# Altium footprint library MLACHE_J.PCBLIB: 73 footprints (part 2 of 5)
Each footprint in its own frame and in the unit in brackets; x right, y up, seen from the top. Pads: shape width x height; smd on the part's side, far side on the other; paste and mask are expansions set on the pad; w line width, h text height; cw(c..) or ccw(c..) is an arc to the next point about the centre after c.
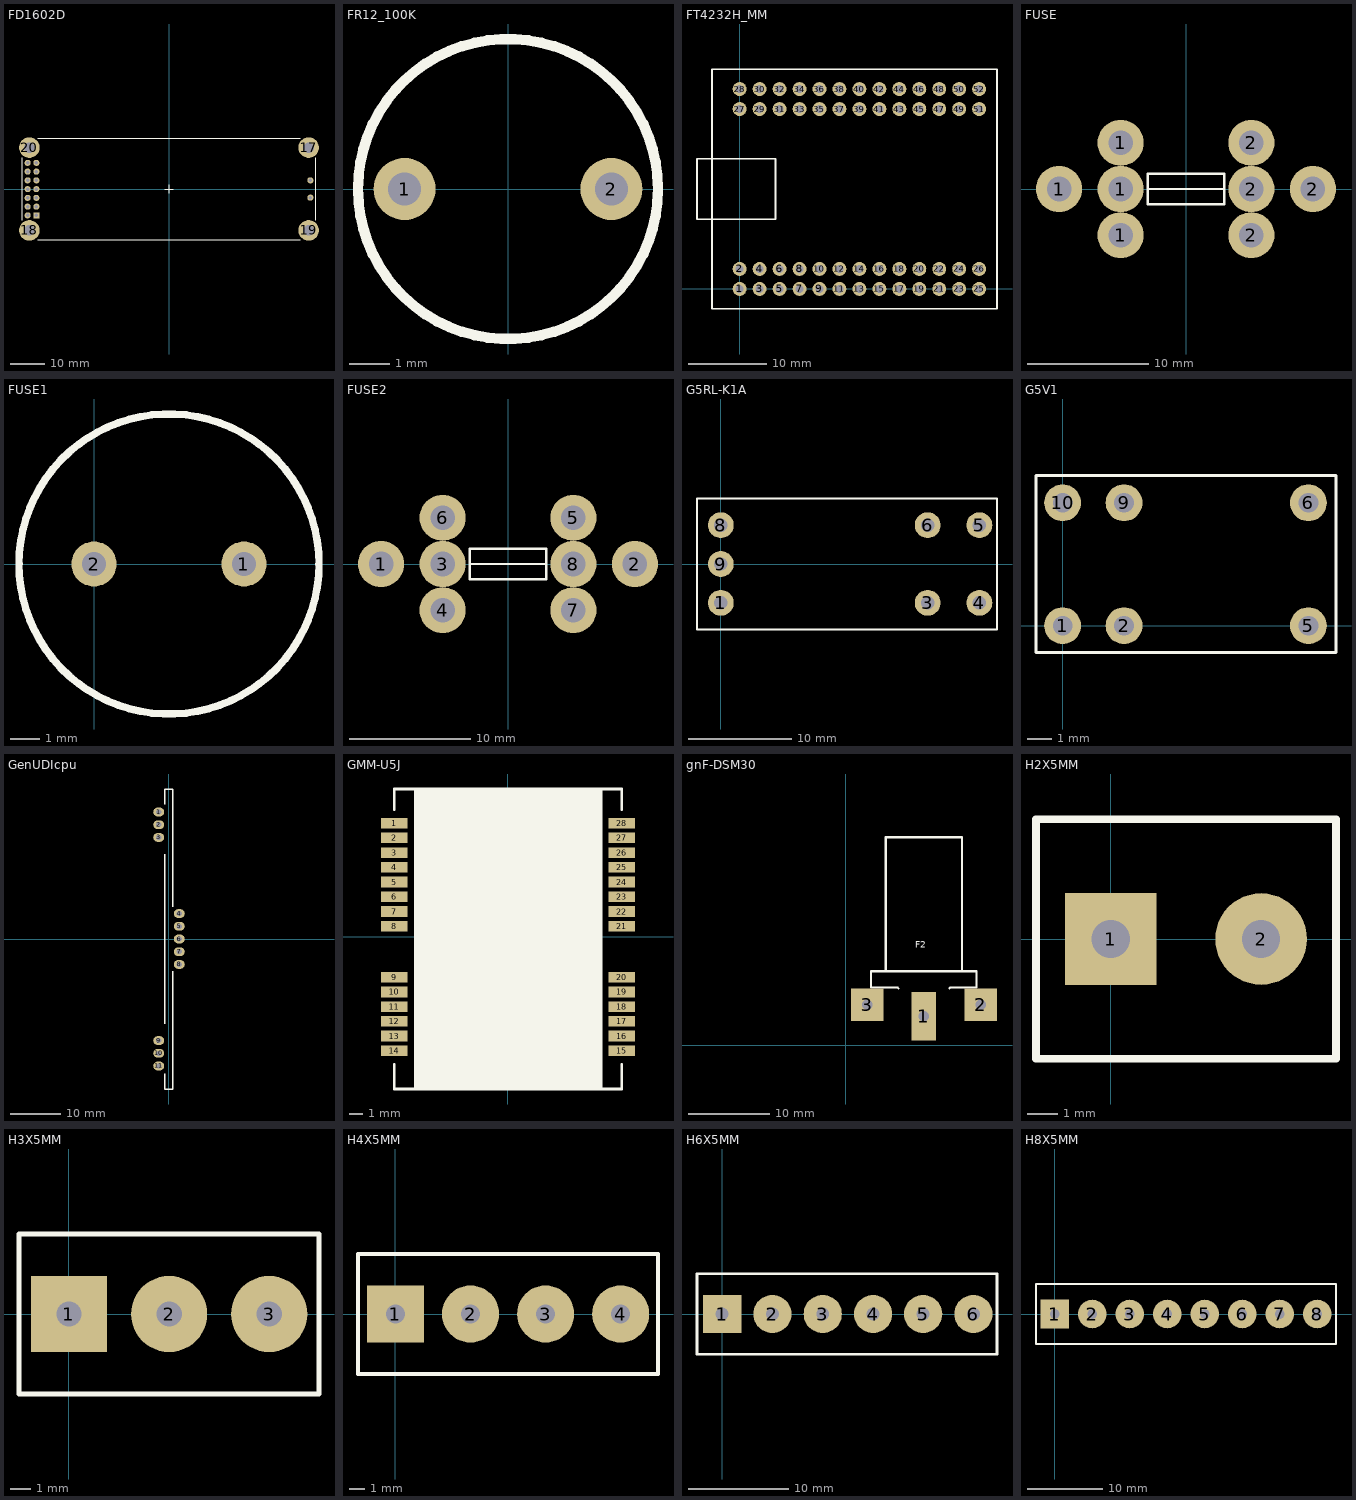
[diagram p1: the footprints below, top view; thin cyan lines are the x and y axes]

## FD1602D [mm]
pads (20):
  rect 1.778x1.778 hole 1.016: 1(-38.46,-7.65)
  round 1.778 hole 1.016: 2(-41,-7.65) 3(-38.46,-5.11) 4(-41,-5.11) 5(-38.46,-2.57) 6(-41,-2.57) 7(-38.46,-0.03) 8(-41,-0.03) 9(-38.46,2.51) 10(-41,2.51) 11(-38.46,5.05) 12(-41,5.05) 13(-38.46,7.59) 14(-41,7.59) 15(41,-2.5) 16(41,2.5)
  round 6 hole 3: 17(40.5,12) 18(-40.5,-12) 19(40.5,-12) 20(-40.5,12)
TopOverlay:
  lines w0.254: -42.5,-9 -42.5,9 ; -38,-14.75 38,-14.75 ; -38,14.75 38,14.75 ; -1.2,0 0,0 ; 0,-1.3 0,0 ; 0,1.3 0,0 ; 1.2,0 0,0 ; 42.5,-9 42.5,9

## FR12_100K [mil]
pads (2):
  round 60 hole 32: 1(-100,0) 2(100,0)
TopOverlay:
  circle w10: c0,0 r145

## FT4232H_MM [mil]
pads (52):
  round 70 hole 40: 1(0,0) 2(0,100) 3(100,0) 4(100,100) 5(200,0) 6(200,100) 7(300,0) 8(300,100) 9(400,0) 10(400,100) 11(500,0) 12(500,100) 13(600,0) 14(600,100) 15(700,0) 16(700,100) 17(800,0) 18(800,100) 19(900,0) 20(900,100) 21(1000,0) 22(1000,100) 23(1100,0) 24(1100,100) 25(1200,0) 26(1200,100) 27(0,901.18) 28(0,1001.18) 29(100,901.18) 30(100,1001.18) 31(200,901.18) 32(200,1001.18) 33(300,901.18) 34(300,1001.18) 35(400,901.18) 36(400,1001.18) 37(500,901.18) 38(500,1001.18) 39(600,901.18) 40(600,1001.18) 41(700,901.18) 42(700,1001.18) 43(800,901.18) 44(800,1001.18) 45(900,901.18) 46(900,1001.18) 47(1000,901.18) 48(1000,1001.18) 49(1100,901.18) 50(1100,1001.18) 51(1200,901.18) 52(1200,1001.18)
TopOverlay:
  lines w10: -213.78,349.02 -213.78,652.17 179.92,652.17 179.92,349.02 -213.78,349.02 ; -137.8,-99.41 1289.37,-99.41 1289.37,1100.59 -137.8,1100.59 -137.8,-99.41

## FUSE [mil]
pads (8):
  round 150 hole 80: 1(-412.5,0) 1(-212.5,-150) 1(-212.5,0) 1(-212.5,150) 2(212.5,-150) 2(212.5,0) 2(212.5,150) 2(412.5,0)
TopOverlay:
  lines w8: -125,0 125,0 ; -125,-50 -125,50 125,50 125,-50 -125,-50

## FUSE1 [mil]
pads (2):
  round 60 hole 32: 1(200,0) 2(0,0)
TopOverlay:
  circle w10: c100,0 r200

## FUSE2 [mil]
pads (8):
  round 150 hole 80: 1(-412.5,0) 2(412.5,0) 3(-212.5,0) 4(-212.5,-150) 5(212.5,150) 6(-212.5,150) 7(212.5,-150) 8(212.5,0)
TopOverlay:
  lines w8: -125,0 125,0 ; -125,-50 -125,50 125,50 125,-50 -125,-50

## G5RL-K1A [mm]
pads (7):
  round 2.5 hole 1.3: 1(0,-3.75) 3(20,-3.75) 4(25,-3.75) 5(25,3.75) 6(20,3.75) 8(0,3.75) 9(0,0)
TopOverlay:
  lines w0.2: -2.3,-6.35 -2.3,6.35 26.7,6.35 26.7,-6.35 -2.3,-6.35
3D body: height 15.7, standoff 0, extent -2.3,-6.35 26.7,6.35

## G5V1 [mil]
pads (6):
  round 60 hole 32: 1(0,0) 2(100,0) 5(400,0) 6(400,200) 9(100,200) 10(0,200)
TopOverlay:
  lines w5: -43.31,-43.31 444.88,-43.31 444.88,244.09 -43.31,244.09 -43.31,-43.31

## GenUDIcpu [mil]
pads (11):
  oval 86.61x70 hole 40: 1(-80.71,1000) 2(-80.71,900) 3(-80.71,800) 4(80.71,200) 5(80.71,100) 6(80.71,0) 7(80.71,-100) 8(80.71,-200) 9(-80.71,-800) 10(-80.71,-900) 11(-80.71,-1000)
TopOverlay:
  lines w10: -33.46,-1181.1 -33.46,-1062.99 ; -31.5,-1181.1 31.5,-1181.1 31.5,-255.91 ; -31.5,-669.29 -31.5,669.29 ; -31.5,1062.99 -31.5,1181.1 31.5,1181.1 31.5,255.91
3D body: height 1496.06, standoff -225.98, extent -132.39,-1181.1 482.78,1181.1

## GMM-U5J [mm]
pads (28):
  rect 2x0.8 smd: 1(-8.5,8.5) 2(-8.5,7.4) 3(-8.5,6.3) 4(-8.5,5.2) 5(-8.5,4.1) 6(-8.5,3) 7(-8.5,1.9) 8(-8.5,0.8) 9(-8.5,-3) 10(-8.5,-4.1) 11(-8.5,-5.2) 12(-8.5,-6.3) 13(-8.5,-7.4) 14(-8.5,-8.5) 15(8.5,-8.5) 16(8.5,-7.4) 17(8.5,-6.3) 18(8.5,-5.2) 19(8.5,-4.1) 20(8.5,-3) 21(8.5,0.8) 22(8.5,1.9) 23(8.5,3) 24(8.5,4.1) 25(8.5,5.2) 26(8.5,6.3) 27(8.5,7.4) 28(8.5,8.5)
TopOverlay:
  region: -7,11.05 7.05,11.05 7.05,-11.35 -7,-11.35
  lines w0.2: -8.5,-9.5 -8.5,-11.35 8.5,-11.35 8.5,-9.5 ; -8.5,9.5 -8.5,11.05 8.5,11.05 8.5,9.5
3D body: height 0.6, standoff 0, extent -8.5,-11.35 8.5,11.05
3D body: height 1.6, standoff 0.6, extent -7.8,-10.7 7.8,10.35

## gnF-DSM30 [mm]
pads (3):
  rect 3x6 hole 1.3: 1(9.652,3.556)
  rect 4x4 hole 1.3: 2(16.652,4.968) 3(2.652,4.968)
TopOverlay:
  lines w0.254: 4.952,9.112 4.952,25.612 14.352,25.612 14.352,9.112 ; 6.502,7.012 6.402,7.112 3.152,7.112 3.152,9.112 16.152,9.112 16.152,7.112 12.902,7.112 12.802,7.012
  text "F2" at 8.603,12.037 h0.8

## H2X5MM [mil]
pads (2):
  rect 120x120 hole 50: 1(0,0)
  round 120 hole 50: 2(196.85,0)
TopOverlay:
  lines w10: -98,-157 295,-157 295,157 -98,157 -98,-157

## H3X5MM [mil]
pads (3):
  rect 150x150 hole 50: 1(0,0)
  round 150 hole 50: 2(197,0) 3(394,0)
TopOverlay:
  lines w10: -98.42,-157.48 -98.42,157.48 492.13,157.48 492.13,-157.48 -98.42,-157.48

## H4X5MM [mil]
pads (4):
  rect 150x150 hole 50: 1(0,0)
  round 150 hole 50: 2(197,0) 3(394,0) 4(591,0)
TopOverlay:
  lines w10: -98.42,-157.48 -98.42,157.48 688.98,157.48 688.98,-157.48 -98.42,-157.48

## H6X5MM [mil]
pads (6):
  rect 150x150 hole 50: 1(0,0)
  round 150 hole 50: 2(197,0) 3(394,0) 4(591,0) 5(787,0) 6(984,0)
TopOverlay:
  lines w10: -98.42,-157.48 1076.38,-157.48 1076.38,157.48 -98.42,157.48 -98.42,-157.48

## H8X5MM [mil]
pads (8):
  rect 150x150 hole 50: 1(0,0)
  round 150 hole 50: 2(197,0) 3(394,0) 4(591,0) 5(787,0) 6(984,0) 7(1181,0) 8(1378,0)
TopOverlay:
  lines w10: -98.42,-157.48 1476.38,-157.48 1476.38,157.48 -98.42,157.48 -98.42,-157.48